# Altium schematic symbol library NCP115ASN330T2G.SchLib: 2 symbols
Pins are listed as number, name and electrical type; pins without a type are passive.

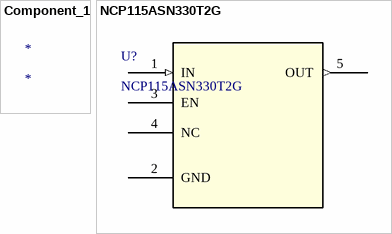
[diagram p0: symbols Component_1 to NCP115ASN330T2G]

## Component_1
designator *

## NCP115ASN330T2G
designator U?
No Description Available; Mfr_Name: onsemi; Copyright: Copyright (C) 2022 Ultra Librarian. All rights reserved.; Manufacturer_Part_Number: NCP115ASN330T2G; Digi-Key_Part_Number_1: NCP115ASN330T2GOSTR-ND; Digi-Key_Part_Number_2: NCP115ASN330T2GOSCT-ND; Digi-Key_Part_Number_3: NCP115ASN330T2GOSDKR-ND; Digi-Key_Part_Number_4: 2156-NCP115ASN330T2G-OS-ND; RefDes: RefDes; Type: DEV
footprint TSOP-5-483-N_ONS
pins: 1 IN (in), 2 GND, 3 EN, 4 NC, 5 OUT (out)